# Altium footprint library uControllerTemplate2021.PcbLib: 18 footprints (part 2 of 2)
Each footprint in its own frame and in the unit in brackets; x right, y up, seen from the top. Pads: shape width x height; smd on the part's side, far side on the other; paste and mask are expansions set on the pad; w line width, h text height; cw(c..) or ccw(c..) is an arc to the next point about the centre after c.
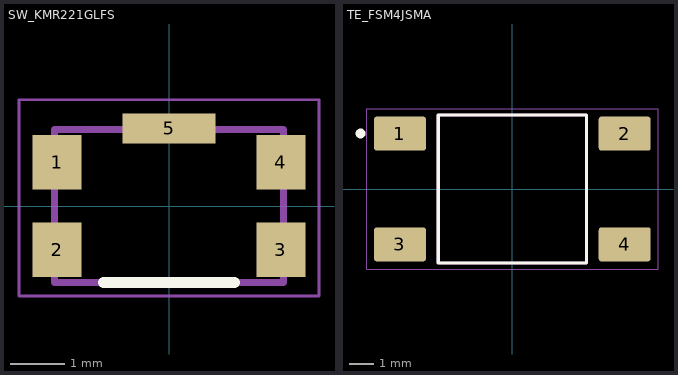
[diagram p1: the footprints below, top view; thin cyan lines are the x and y axes]

## SW_KMR221GLFS [mm]
pads (5):
  rect 0.9x1 smd: 1(-2.05,0.8) 2(-2.05,-0.8) 3(2.05,-0.8) 4(2.05,0.8)
  rect 1.7x0.55 smd: 5(0,1.425)
Top Overlay:
  lines w0.2: -1.2,-1.4 1.2,-1.4
Mechanical 13:
  lines w0.127: -2.1,-1.4 2.1,-1.4 2.1,1.4 -2.1,1.4 -2.1,-1.4
Mechanical 15:
  lines w0.05: -2.75,-1.65 2.75,-1.65 2.75,1.95 -2.75,1.95 -2.75,-1.65
3D body "KMR221GLFS--3DModel-STEP-56544.STEP": height 1.85, standoff -0.05, extent -2.3,-1.4 2.3,1.4

## TE_FSM4JSMA [mm]
pads (4):
  rrect15% 2.1x1.38 smd: 1(-4.55,2.24) 2(4.55,2.24) 3(-4.55,-2.24) 4(4.55,-2.24)
Top Overlay:
  circle w0.2: c-6.151,2.249 r0.1
  lines w0.127: -3,-3 -3,3 3,3 3,-3 -3,-3
Mechanical 13:
  lines w0.127: -3,-3 3,-3 3,3 -3,3 -3,-3
Mechanical 15:
  lines w0.05: -5.9,-3.25 5.9,-3.25 5.9,3.25 -5.9,3.25 -5.9,-3.25
3D body "FSM4JSMA.STEP": height 4.98, standoff -0.15, extent -5,-3 5,3